# Altium footprint library pw.PcbLib: 18 footprints (part 1 of 2)
Each footprint in its own frame and in the unit in brackets; x right, y up, seen from the top. Pads: shape width x height; smd on the part's side, far side on the other; paste and mask are expansions set on the pad; w line width, h text height; cw(c..) or ccw(c..) is an arc to the next point about the centre after c.
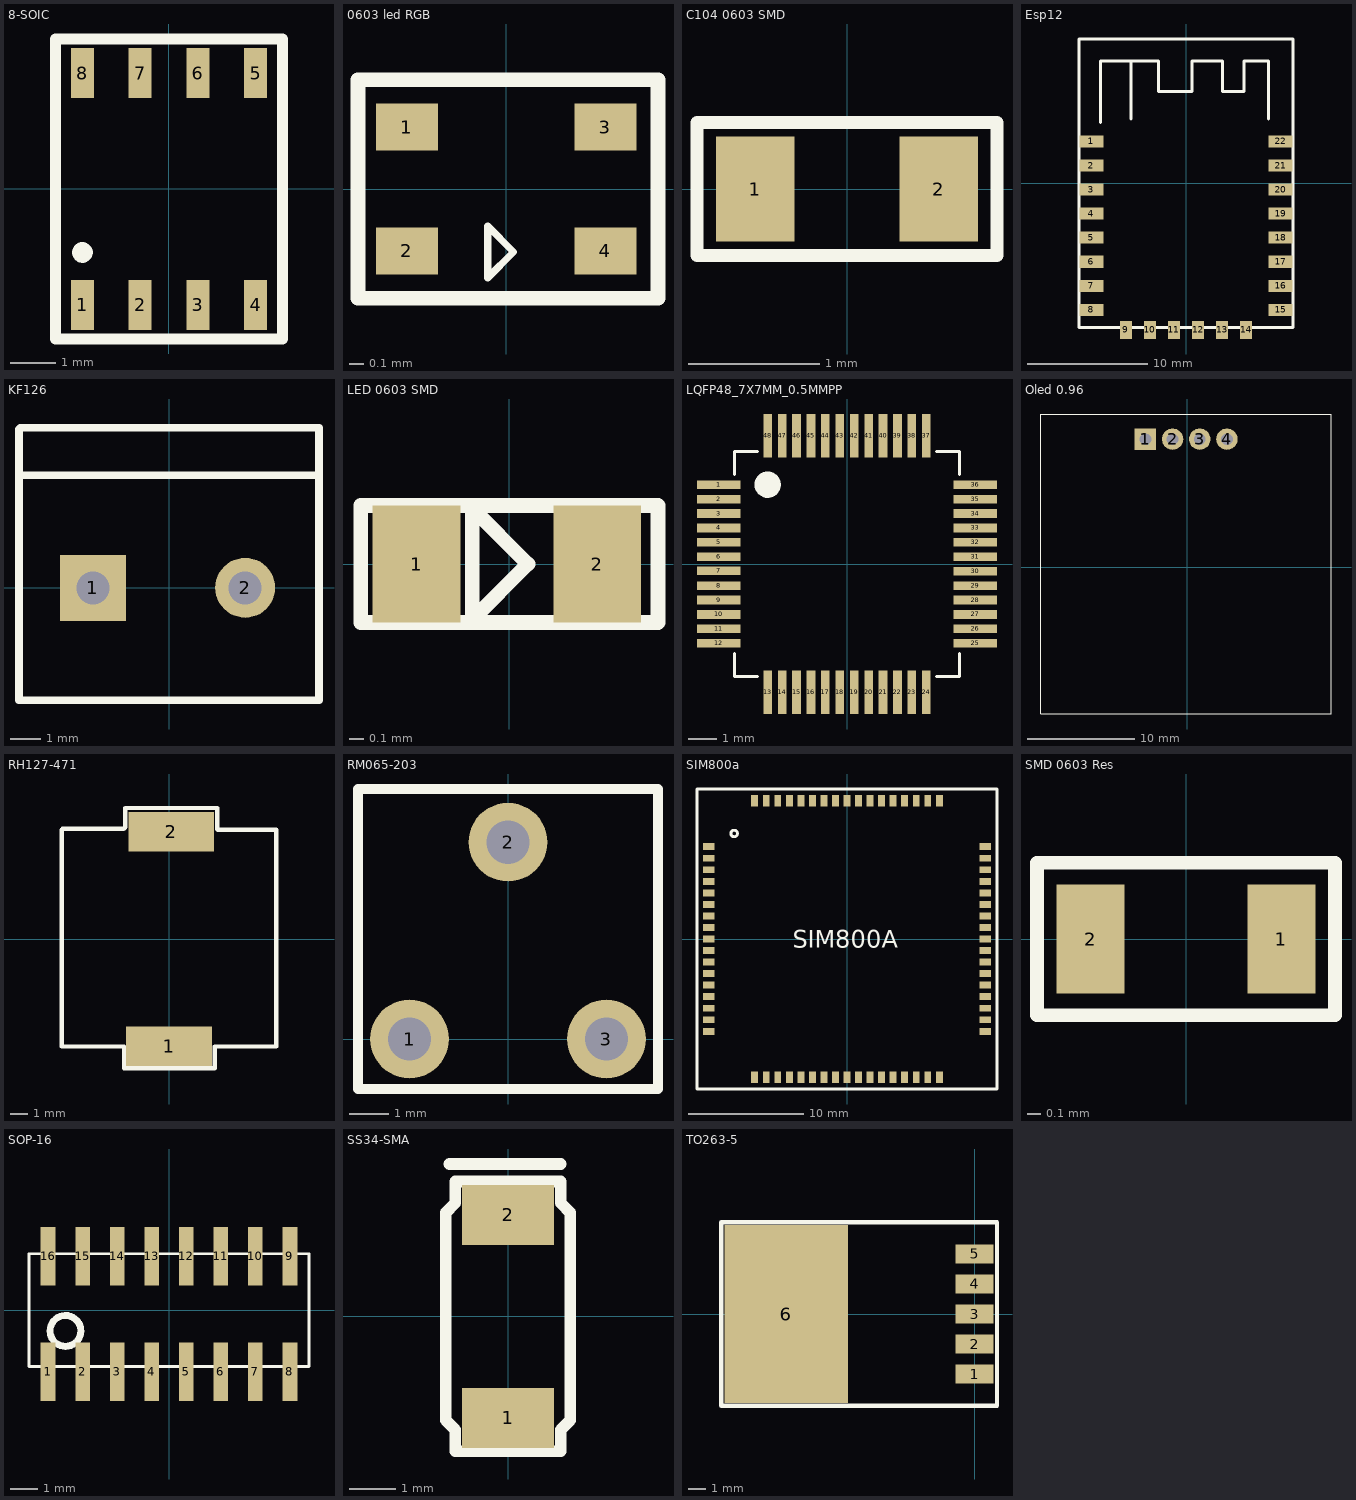
[diagram p0: the footprints below, top view; thin cyan lines are the x and y axes]

## 8-SOIC [mm]
pads (8):
  rect 0.51x1.1 smd: 1(-1.905,-2.55) 2(-0.635,-2.55) 3(0.635,-2.55) 4(1.905,-2.55) 5(1.905,2.55) 6(0.635,2.55) 7(-0.635,2.55) 8(-1.905,2.55)
Top Overlay:
  circle w0.254: c-1.905,-1.397 r0.1
  lines w0.247: -2.5,-3.302 -2.5,3.302 2.5,3.302 2.5,-3.302 -2.5,-3.302
3D body "User Library-SOIC-8-1.STEP": height 1.75, standoff 0, extent -2.45,-3 2.45,3

## 18-SOIC [mm]

## 0603 led RGB [mm]
pads (4):
  rect 0.425x0.325 smd: 1(-0.68,0.425) 2(-0.68,-0.425) 3(0.68,0.425) 4(0.68,-0.425)
Top Overlay:
  lines w0.05: -0.127,-0.61 0.051,-0.432 -0.127,-0.254 -0.127,-0.61
  lines w0.1: -1.016,-0.75 -1.016,0.75 1.041,0.75 1.041,-0.75 -1.016,-0.75

## C104 0603 SMD [mm]
pads (2):
  rect 0.6x0.8 smd: 1(-0.7,0) 2(0.7,0)
Top Overlay:
  lines w0.1: -1.143,-0.508 -1.143,0.508 1.143,0.508 1.143,-0.508 -1.143,-0.508
3D body "User Library-SMD Ceramic Capacitors_0603 (1608)_CF.STEP": height -0.4, standoff -1.2, extent -0.8,-0.4 0.801,0.4

## Esp12 [mm]
pads (22):
  rect 2x1 smd: 1(-7.874,3.48) 2(-7.874,1.48) 3(-7.874,-0.52) 4(-7.874,-2.52) 5(-7.874,-4.52) 6(-7.874,-6.52) 7(-7.874,-8.52) 8(-7.874,-10.52) 15(7.874,-10.52) 16(7.874,-8.52) 17(7.874,-6.52) 18(7.874,-4.52) 19(7.874,-2.52) 20(7.874,-0.52) 21(7.874,1.48) 22(7.874,3.48)
  rect 1x1.5 smd: 9(-5,-12.192) 10(-3,-12.192) 11(-1,-12.192) 12(1,-12.192) 13(3,-12.192) 14(5,-12.192)
Top Overlay:
  lines w0.254: -7.112,5.08 -7.112,10.16 -4.572,10.16 ; 6.858,5.334 6.858,10.16 4.826,10.16 4.826,7.62 3.048,7.62 3.048,10.16 0.508,10.16 0.508,7.62 -2.286,7.62 -2.286,10.16 -4.572,10.16 ; -4.572,10.16 -4.572,5.334 -4.572,7.62 -4.572,10.16 ; -8.89,-12 -8.89,12 8.89,12 8.89,-12 -8.89,-12
3D body "User Library-EPS8266 ESP-12E.STEP": height 2.65, standoff -0.04, extent -8.005,-12.005 8.005,12

## KF126 [mm]
pads (2):
  rect 2.2x2.2 hole 1.1: 1(-2.54,0)
  round 2 hole 1.1: 2(2.54,0)
Top Overlay:
  lines w0.254: -5,3.75 5,3.75 ; -5,3.75 -5,-3.75 5,-3.75 5,3.75 ; -5,3.75 -5,5.287 -4.953,5.334 5,5.334 5,5.254 5,3.75
3D body "User Library-TER-KF128-2P.STEP": height 14.85, standoff -4.45, extent -5.634,-5.207 5.126,5.293

## LED 0603 SMD [mm]
pads (2):
  rect 0.6x0.8 smd: 1(-0.635,0) 2(0.6,0)
Top Overlay:
  lines w0.1: -1.016,-0.4 1.016,-0.4 1.016,0.4 -1.016,0.4 -1.016,-0.4 ; -0.254,-0.381 0.127,0 -0.254,0.381 -0.254,-0.381
3D body "User Library-LED_0603_R.STEP": height 0.6, standoff 0, extent -0.673,-0.4 0.927,0.4

## LQFP48_7X7MM_0.5MMPP [mm]
pads (48):
  rect 1.5x0.3 smd: 1(-4.45,2.75) 2(-4.45,2.25) 3(-4.45,1.75) 4(-4.45,1.25) 5(-4.45,0.75) 6(-4.45,0.25) 7(-4.445,-0.229) 8(-4.45,-0.75) 9(-4.45,-1.25) 10(-4.45,-1.75) 11(-4.45,-2.25) 12(-4.45,-2.75) 25(4.45,-2.75) 26(4.45,-2.25) 27(4.45,-1.75) 28(4.45,-1.25) 29(4.45,-0.75) 30(4.45,-0.25) 31(4.45,0.25) 32(4.45,0.75) 33(4.45,1.25) 34(4.45,1.75) 35(4.45,2.25) 36(4.45,2.75)
  rect 0.3x1.5 smd: 13(-2.75,-4.45) 14(-2.25,-4.45) 15(-1.75,-4.45) 16(-1.25,-4.45) 17(-0.75,-4.45) 18(-0.25,-4.45) 19(0.25,-4.45) 20(0.75,-4.45) 21(1.25,-4.45) 22(1.75,-4.45) 23(2.25,-4.45) 24(2.75,-4.45) 37(2.75,4.45) 38(2.25,4.45) 39(1.75,4.45) 40(1.25,4.45) 41(0.75,4.45) 42(0.25,4.45) 43(-0.25,4.45) 44(-0.75,4.45) 45(-1.25,4.45) 46(-1.75,4.45) 47(-2.25,4.45) 48(-2.75,4.45)
Top Overlay:
  circle w0.5: c-2.75,2.75 r0.206
  lines w0.1: -3.9,-3.1 -3.9,-3.9 -3.1,-3.9 ; -3.9,3.1 -3.9,3.9 -3.1,3.9 ; 3.1,-3.9 3.9,-3.9 3.9,-3.1 ; 3.1,3.9 3.9,3.9 3.9,3.1

## Oled 0.96 [mm]
pads (4):
  rect 2x2 hole 1.1: 1(-3.9,12)
  round 2 hole 1.1: 2(-1.36,12) 3(1.18,12) 4(3.72,12)
Top Overlay:
  lines w0.1: -13.7,-13.7 13.487,-13.7 13.487,-6.475 13.487,7.126 13.487,14.351 -13.7,14.351 -13.7,-13.7
3D body "User Library-128x64I2COLEDDisplayAdafruit.STEP": height 8.47, standoff -2.37, extent -13.492,-13.509 13.208,14.351

## RH127-471 [mm]
pads (2):
  rect 5x2.3 smd: 1(0,-6.223) 2(0.127,6.25)
Top Overlay:
  lines w0.254: -6.25,-6.25 -2.794,-6.25 -2.618,-6.25 -2.618,-7.518 2.667,-7.518 2.667,-6.25 6.25,-6.25 6.25,4.215 6.25,6.352 6.25,6.375 2.845,6.375 2.819,6.401 2.819,7.645 -2.54,7.645 -2.54,6.528 -2.642,6.426 -6.201,6.426 -6.25,6.377 -6.25,3.935 -6.25,-6.25
3D body "70410785.stp": height 5.8, standoff -0.2, extent -6.25,-6.25 6.25,6.25

## RM065-203 [mm]
pads (3):
  round 2 hole 1.1: 1(-2.5,0) 2(0,5) 3(2.5,0)
Top Overlay:
  lines w0.254: -3.81,-1.27 -3.81,6.35 3.81,6.35 3.81,-1.27 -3.81,-1.27
3D body "User Library-Pot - RES_VAR1.STEP": height 7, standoff -3.9, extent -3.25,-1.135 3.25,5.915

## SIM800a [mm]
pads (68):
  rect 1x0.6 smd: 1(-12,8) 2(-12,7) 3(-12,6) 4(-12,5) 5(-12,4) 6(-12,3) 7(-12,2) 8(-12,1) 9(-12,0) 10(-12,-1) 11(-12,-2) 12(-12,-3) 13(-12,-4) 14(-12,-5) 15(-12,-6) 16(-12,-7) 17(-12,-8) 35(12,-8) 36(12,-7) 37(12,-6) 38(12,-5) 39(12,-4) 40(12,-3) 41(12,-2) 42(12,-1) 43(12,0) 44(12,1) 45(12,2) 46(12,3) 47(12,4) 48(12,5) 49(12,6) 50(12,7) 51(12,8)
  rect 0.6x1 smd: 18(-8,-12) 19(-7,-12) 20(-6,-12) 21(-5,-12) 22(-4,-12) 23(-3,-12) 24(-2,-12) 25(-1,-12) 26(0,-12) 27(1,-12) 28(2,-12) 29(3,-12) 30(4,-12) 31(5,-12) 32(6,-12) 33(7,-12) 34(8,-12) 52(8,12) 53(7,12) 54(6,12) 55(5,12) 56(4,12) 57(3,12) 58(2,12) 59(1,12) 60(0,12) 61(-1,12) 62(-2,12) 63(-3,12) 64(-4,12) 65(-5,12) 66(-6,12) 67(-7,12) 68(-8,12)
Top Overlay:
  circle w0.254: c-9.779,9.144 r0.284
  lines w0.247: -13,-13 13,-13 13,13 -13,13 -13,-13
  text "SIM800A" at -4.699,-0.762 h1.52
3D body "User Library-SIM800.STEP": height 3, standoff 0, extent -12,-12 12,12

## SMD 0603 Res [mm]
pads (2):
  rect 0.5x0.8 smd: 1(0.7,0) 2(-0.7,0)
Top Overlay:
  lines w0.1: -1.092,-0.559 -1.092,0.559 1.092,0.559 1.092,-0.559 -1.092,-0.559
3D body "SW3DPS-RESISTOR 0603-DEFAULT.STEP": height 0.48, standoff -0.03, extent -0.8,-0.43 0.8,0.43

## SOP-16 [mm]
pads (16):
  rect 0.55x2.15 smd: 1(-4.445,-2.261) 2(-3.175,-2.261) 3(-1.905,-2.261) 4(-0.635,-2.261) 5(0.635,-2.261) 6(1.905,-2.261) 7(3.175,-2.261) 8(4.445,-2.261) 9(4.445,1.981) 10(3.175,1.981) 11(1.905,1.981) 12(0.635,1.981) 13(-0.635,1.981) 14(-1.905,1.981) 15(-3.175,1.981) 16(-4.445,1.981)
Top Overlay:
  lines w0.1: -5.15,-2.075 -5.15,2.075 5.15,2.075 5.15,-2.075 -5.15,-2.075
  lines w0.254: -3.253,-0.651 ccw(c-3.81,-0.762) -3.242,-0.762
3D body "User Library-SOP16_208mil (5_3mm).STEP": height 1.8, standoff -0.2, extent -5.1,-3.912 5.1,4.009

## SS34-SMA [mm]
pads (2):
  rect 2x1.3 smd: 1(0,-2.2) 2(0,2.2)
Top Overlay:
  lines w0.254: -1.27,3.302 1.143,3.302 ; -1.35,-2.25 -1.143,-2.457 -1.143,-2.921 1.143,-2.921 1.143,-2.457 1.35,-2.25 1.35,2.25 1.143,2.457 1.143,2.921 -1.143,2.921 -1.143,2.457 -1.35,2.25 -1.35,-2.25
3D body "User Library-DO-214AC_SMA.STEP": height 2.3, standoff 0.1, extent -1.35,-2.46 1.35,2.54

## TO263-5 [mm]
pads (6):
  rect 2.16x1.07 smd: 1(0,-3.4) 2(0,-1.7) 3(0,0) 4(0,1.7) 5(0,3.4)
  rect 6.99x10.08 smd: 6(-10.675,0)
Top Overlay:
  lines w0.254: -14.351,-5.207 -14.351,5.207 1.27,5.207 1.27,-5.207 -14.351,-5.207
3D body "User Library-TO-263-5.STEP": height 4.56, standoff 0, extent -13.888,-5.08 0.127,5.08